# Altium footprint library SparkFun-Connectors.PCBLIB: 386 footprints (part 24 of 25)
Each footprint in its own frame and in the unit in brackets; x right, y up, seen from the top. Pads: shape width x height; smd on the part's side, far side on the other; paste and mask are expansions set on the pad; w line width, h text height; cw(c..) or ccw(c..) is an arc to the next point about the centre after c.
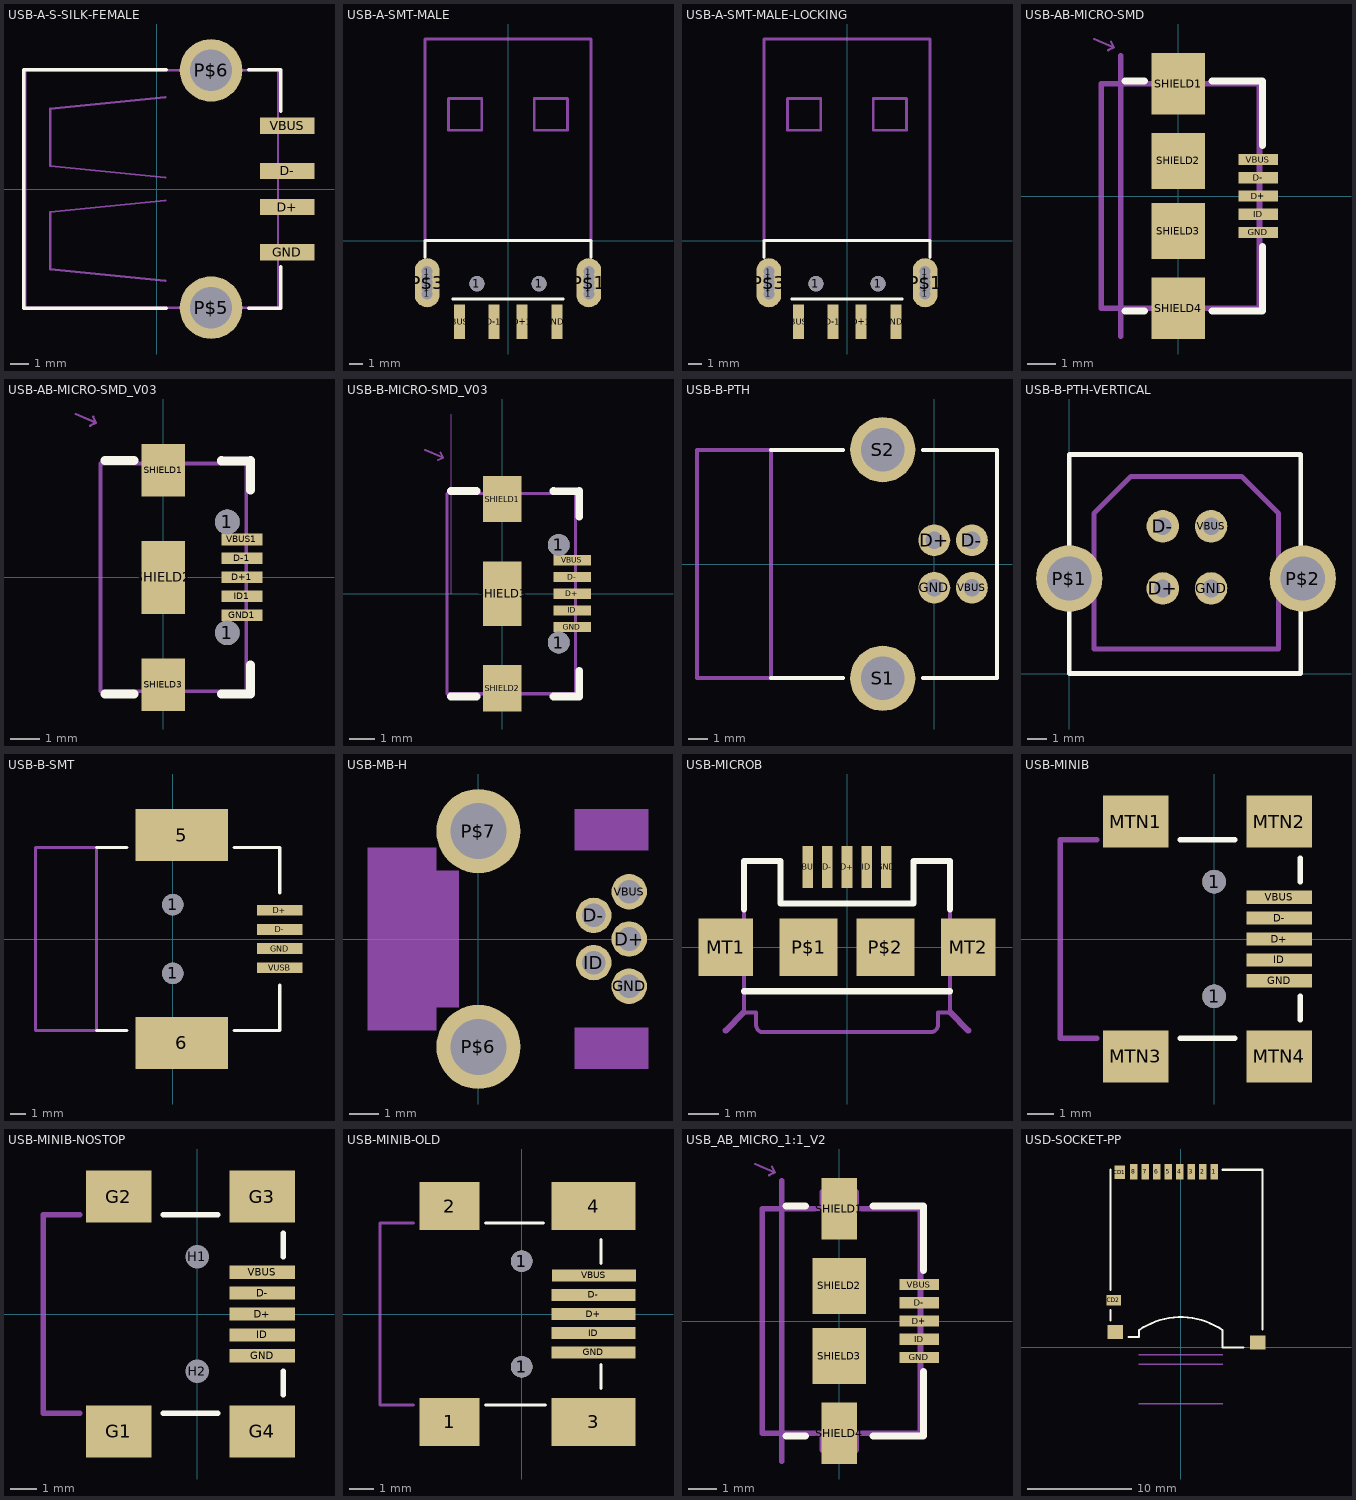
[diagram p23: the footprints below, top view; thin cyan lines are the x and y axes]

## USB-A-S-SILK-FEMALE [mil]
pads (6):
  rect 118.11x35.43 smd: D+(283.94,-39.37) D-(283.94,39.37) GND(283.94,-137.8) VBUS(283.94,137.8)
  round 136.5 hole 91: P$5(118.11,-258.5) P$6(118.11,258.5)
Top Overlay:
  lines w8: 20,-260 -290,-260 -290,260 20,260 ; 200,-260 270,-260 270,-170 ; 200,260 270,260 270,170
Mechanical 16:
  lines w5: -286.89,-258.5 263.61,-258.5 ; -286.89,-255 -286.89,255 ; -286.89,258.5 263.61,258.5 ; 18.11,-200 -231.89,-175 -231.89,-50 18.11,-25 ; 18.11,25 -231.89,50 -231.89,175 18.11,200 ; 264.11,-256 264.11,256

## USB-A-SMT-MALE [mil]
pads (16):
  round 31.5 hole 31.5: 1(-230.32,-151.57) 1(-230.32,-135.83) 1(-230.32,-104.33) 1(-230.32,-88.58) 1(230.32,-151.57) 1(230.32,-135.83) 1(230.32,-104.33) 1(230.32,-88.58)
  round 43.31 hole 43.31: 1(-88.58,-122.83) 1(88.58,-122.83)
  rect 31.5x98.43 smd: D+1(40.43,-231.1) D-1(-40.43,-231.1) GND1(139.8,-231.1) VBUS1(-137.8,-231.1)
  oval 70x140 hole 31.5: P$1(230.32,-120.08) P$3(-230.32,-120.08)
Top Overlay:
  lines w8: -236.22,-48.03 -236.22,0 236.22,0 236.22,-48.03 ; -157.48,-166.14 157.48,-166.14
Mechanical 16:
  lines w8: -236.22,0 -236.22,574.02 236.22,574.02 236.22,0 ; -169.29,314.17 -169.29,404.72 -74.8,404.72 -74.8,314.17 -169.29,314.17 ; 74.8,314.17 74.8,404.72 169.29,404.72 169.29,314.17 74.8,314.17
  text "PCB Edge" at -173.23,26.77 h77.5

## USB-A-SMT-MALE-LOCKING [mil]
pads (16):
  round 31.5 hole 31.5: 1(-222.32,-151.57) 1(-222.32,-135.83) 1(-222.32,-104.33) 1(-222.32,-88.58) 1(222.32,-151.57) 1(222.32,-135.83) 1(222.32,-104.33) 1(222.32,-88.58)
  round 43.31 hole 43.31: 1(-88.58,-122.83) 1(88.58,-122.83)
  rect 31.5x98.43 smd: D+1(40.43,-231.1) D-1(-40.43,-231.1) GND1(139.8,-231.1) VBUS1(-137.8,-231.1)
  oval 70x140 hole 31.5: P$1(222.32,-120.08) P$3(-222.32,-120.08)
Top Overlay:
  lines w8: -236.22,-48.03 -236.22,0 236.22,0 236.22,-48.03 ; -157.48,-166.14 157.48,-166.14
Mechanical 16:
  rectangle: -236,-160 -223,-80
  region: 236,-80 223,-80 223,-160 236,-160
  lines w0: -243.5,-160 -243.5,-80 ; -236,-160 -236,-82 ; -223,-160 -223,-82 ; 243.5,-160 243.5,-80
  lines w8: -236.22,0 -236.22,574.02 236.22,574.02 236.22,0 ; -169.29,314.17 -169.29,404.72 -74.8,404.72 -74.8,314.17 -169.29,314.17 ; 74.8,314.17 74.8,404.72 169.29,404.72 169.29,314.17 74.8,314.17
  text "PCB Edge" at -173.23,26.77 h77.5

## USB-AB-MICRO-SMD [mm]
pads (9):
  rect 1.4x0.4 smd: D+(2.85,0) D-(2.85,0.65) GND(2.85,-1.3) ID(2.85,-0.65) VBUS(2.85,1.3)
  rect 1.9x2.2 smd: SHIELD1(0,4) SHIELD4(0,-4)
  rect 1.9x2 smd: SHIELD2(0,1.25) SHIELD3(0,-1.25)
Top Overlay:
  lines w0.254: -1.9,-4.1 -1.2,-4.1 ; -1.9,4.1 -1.2,4.1 ; 1.2,-4.1 3,-4.1 3,-1.8 ; 1.2,4.1 3,4.1 3,1.8
Mechanical 16:
  lines w0.08: -3,5.6 -2.3,5.3 ; -2.5,5.2 -2.3,5.3 ; -2.4,5.5 -2.3,5.3
  lines w0.203: -2.75,-4 -2.75,4 ; -2.7,-4 2.9,-4 2.9,4 0.6,4 ; -2.7,4 -0.6,4 ; -2.05,-5 -2.05,5 ; -0.6,-4 -0.6,-4.6 0.6,-4.6 0.6,-4 ; -0.6,4 0.6,4 ; -0.6,4 -0.6,4.6 0.6,4.6 0.6,4
  text "PCB Front" at -5.2,5.5 h0.47

## USB-AB-MICRO-SMD_V03 [mm]
pads (10):
  round 0.85 hole 0.85: 1(2.2,-1.9) 1(2.2,1.9)
  rect 1.4x0.4 smd: D+1(2.7,0) D-1(2.7,0.65) GND1(2.7,-1.3) ID1(2.7,-0.65) VBUS1(2.7,1.3)
  rect 1.5x1.8 smd: SHIELD1(0,3.68) SHIELD3(0,-3.68)
  rect 1.5x2.5 smd: SHIELD2(0,0)
Top Overlay:
  lines w0.305: -2,-4 -1,-4 ; -2,4 -1,4 ; 2,-4 3,-4 3,-3 ; 2,4 2,3.993 2.982,3.993 ; 3,3 3,4
Top Paste:
  rectangle: -0.75,2.784 0.75,4.584
  rectangle: -0.35,-0.75 0.35,0.75
  rectangle: -0.75,-4.584 0.75,-2.784
Top Solder:
  rectangle: -0.85,2.684 0.85,4.684
  rectangle: -0.85,-4.684 0.85,-2.684
  rectangle: -0.85,-1.35 0.85,1.35
Mechanical 14:
  lines w0.127: -2.15,-3.9 -2.15,3.9 2.85,3.9 2.85,-3.9 -2.15,-3.9
Mechanical 16:
  lines w0.08: -3,5.6 -2.3,5.3 ; -2.5,5.2 -2.3,5.3 ; -2.4,5.5 -2.3,5.3
  text "PCB Front" at -4.66,5.96 h0.47

## USB-B-MICRO-SMD_V03 [mm]
pads (10):
  round 0.85 hole 0.85: 1(2.2,-1.9) 1(2.2,1.9)
  rect 1.45x0.4 smd: D+(2.725,0) D-(2.725,0.65) GND(2.725,-1.3) ID(2.725,-0.65) VBUS(2.725,1.3)
  rect 1.5x1.8 smd: SHIELD1(0,3.685) SHIELD2(0,-3.685)
  rect 1.5x2.5 smd: SHIELD3(0,0)
Top Overlay:
  lines w0.305: -2,-4 -1,-4 ; -2,4 -1,4 ; 2,-4 3,-4 3,-3 ; 2,4 2,3.993 2.982,3.993 ; 3,3 3,4
Top Paste:
  rectangle: -0.75,2.784 0.75,4.584
  rectangle: -0.35,-0.75 0.35,0.75
  rectangle: -0.75,-4.584 0.75,-2.784
Top Solder:
  rectangle: -0.85,2.684 0.85,4.684
  rectangle: -0.85,-4.684 0.85,-2.684
  rectangle: -0.85,-1.35 0.85,1.35
Mechanical 14:
  lines w0.127: -2.15,-3.9 -2.15,3.9 2.85,3.9 2.85,-3.9 -2.15,-3.9
Mechanical 16:
  lines w0: -2,0 -2,7
  lines w0.08: -3,5.6 -2.3,5.3 ; -2.5,5.2 -2.3,5.3 ; -2.4,5.5 -2.3,5.3
  text "PCB Front" at -4.66,5.96 h0.47

## USB-B-PTH [mil]
pads (6):
  round 66 hole 36: D+(0,49.21) D-(78,49.21) GND(0,-49.21) VBUS(78,-49.21)
  round 135 hole 90: S1(-107,-237) S2(-107,237)
Top Overlay:
  lines w8: -338.58,-236.22 -188.98,-236.22 ; -338.58,236.22 -188.98,236.22 ; -23.62,-236.22 129.92,-236.22 129.92,236.22 -23.62,236.22
Mechanical 16:
  lines w8: -492.13,-236.22 -338.58,-236.22 -338.58,236.22 -492.13,236.22 -492.13,-236.22

## USB-B-PTH-VERTICAL [mil]
pads (6):
  round 66 hole 36: D+(190,173) D-(190,299) GND(288,173) VBUS(288,299)
  round 135 hole 90: P$1(0,193) P$2(474,193)
Top Overlay:
  lines w10: 0,0 470,0 470,445 0,445 0,0
Mechanical 16:
  lines w10: 50,50 425,50 425,325 350,400 125,400 50,325 50,50

## USB-B-SMT [mm]
pads (8):
  round 1.4 hole 1.4: 1(0,-2.25) 1(0,2.25)
  rect 6.04x3.4 smd: 5(0.58,6.8) 6(0.58,-6.8)
  rect 3x0.7 smd: D+(7,1.875) D-(7,0.625) GND(7,-0.625) VUSB(7,-1.875)
Top Overlay:
  lines w0.203: -5,-6 -3,-6 ; -5,6 -3,6 ; 4,-6 7,-6 7,-3 ; 4,6 7,6 7,3
Mechanical 16:
  lines w0.203: -9,-6 -9,6 -5,6 -5,-6 -9,-6 ; -1,-7.3 -1,-6 2.4,-6 2.4,-7.3 2.2,-7.5 1.9,-7.5 1.4,-7 0,-7 -0.5,-7.5 -0.8,-7.5 -1,-7.3 ; -1,6 2.4,6 2.4,7.3 2.2,7.5 1.9,7.5 1.4,7 0,7 -0.5,7.5 -0.8,7.5 -1,7.3 -1,6

## USB-MB-H [mil]
pads (7):
  round 47.25 hole 31.5: D+(200.79,0) D-(153.54,31.5) GND(200.79,-62.99) ID(153.54,-31.5) VBUS(200.79,62.99)
  round 112.2 hole 74.8: P$6(0,-143.7) P$7(0,143.7)
Bottom Overlay:
  lines w5: -127.95,-49.21 68.9,-29.53 68.9,29.53 -127.95,49.21 ; 29.53,59.06 -127.95,78.74 -127.95,118.11 29.53,137.8 ; 49.21,-137.8 -127.95,-118.11 -127.95,-78.74 49.21,-59.06 ; -147.64,-153.54 -147.64,153.54 206.69,153.54 206.69,-153.54 -147.64,-153.54
Mechanical 10:
  rectangle: 127.95,118.11 226.38,173.23
  rectangle: 127.95,-173.23 226.38,-118.11
  rectangle: -147.64,-122.05 -56.1,122.05
  rectangle: -56.1,-91.54 -25.59,91.54

## USB-MICROB [mm]
pads (9):
  rect 0.35x1.4 smd: D+(0,2.65) D-(-0.65,2.65) GND(1.3,2.65) ID(0.65,2.65) VBUS(-1.3,2.65)
  rect 1.8x1.9 smd: MT1(-4,0) MT2(4,0)
  rect 1.9x1.9 smd: P$1(-1.27,0) P$2(1.27,0)
Top Overlay:
  lines w0.203: -3.4,-1.45 3.4,-1.45 ; -3.4,1.25 -3.4,2.85 -2.2,2.85 -2.2,1.45 2.2,1.45 2.2,2.85 3.4,2.85 3.4,1.25
Mechanical 16:
  lines w0.127: -3.4,-1.45 -3.4,-2.15 -3,-2.15 -3,-2.55 ccw(c-2.762,-2.565) -2.8,-2.8 2.75,-2.8 ccw(c2.765,-2.563) 3,-2.6 3,-2.15 3.4,-2.15 3.4,-1.45 ; -3.4,-1.45 -3.4,2.85 -2.2,2.85 -2.2,1.45 2.2,1.45 2.2,2.85 3.4,2.85 3.4,-1.45 ; -3.4,-1.45 3.4,-1.45
  lines w0.203: -4,-2.75 -3.4,-2.15 ; 3.4,-2.15 4,-2.75

## USB-MINIB [mm]
pads (11):
  round 0.9 hole 0.9: 1(0,-2.2) 1(0,2.2)
  rect 2.5x0.5 smd: D+(2.5,0) D-(2.5,0.8) GND(2.5,-1.6) ID(2.5,-0.8) VBUS(2.5,1.6)
  rect 2.5x2 smd: MTN1(-3,4.5) MTN2(2.5,4.5) MTN3(-3,-4.5) MTN4(2.5,-4.5)
Top Overlay:
  lines w0.203: -1.3,-3.8 0.8,-3.8 ; -1.3,3.8 0.8,3.8 ; 3.3,-3.1 3.3,-2.2 ; 3.3,2.2 3.3,3.1
Mechanical 16:
  lines w0.203: -4.5,-3.8 -5.9,-3.8 -5.9,3.8 -4.5,3.8

## USB-MINIB-NOSTOP [mil]
pads (11):
  rect 98.43x19.69 smd: D+(98.43,0) D-(98.43,31.5) GND(98.43,-62.99) ID(98.43,-31.5) VBUS(98.43,62.99)
  rect 98.43x78.74 smd: G1(-118.11,-177.17) G2(-118.11,177.17) G3(98.43,177.17) G4(98.43,-177.17)
  round 31.5 hole 35.43: H1(0,86.61)
  round 31 hole 35.43: H2(0,-86.61)
Top Overlay:
  lines w8: -51.18,-149.61 31.5,-149.61 ; -51.18,149.61 31.5,149.61 ; 129.92,-122.05 129.92,-86.61 ; 129.92,86.61 129.92,122.05
Top Solder:
  circle w16.14: c0,86.61 r13.78
  circle w16.14: c0,-86.61 r13.78
Mechanical 16:
  lines w8: -177.17,-149.61 -232.28,-149.61 -232.28,149.61 -177.17,149.61

## USB-MINIB-OLD [mm]
pads (11):
  rect 2.5x2 smd: 1(-3,-4.5) 2(-3,4.5)
  round 0.9 hole 0.9: 1(0,-2.2) 1(0,2.2)
  rect 3.5x2 smd: 3(3,-4.5) 4(3,4.5)
  rect 3.5x0.5 smd: D+(3,0) D-(3,0.8) GND(3,-1.6) ID(3,-0.8) VBUS(3.01,1.61)
Top Overlay:
  lines w0.127: -1.5,-3.8 1,-3.8 ; -1.5,3.8 0.9,3.8 ; 3.3,-3.1 3.3,-2.1 ; 3.3,2.1 3.3,3.1
Mechanical 16:
  lines w0.127: -4.5,-3.8 -5.9,-3.8 -5.9,3.8 -4.5,3.8

## USB_AB_MICRO_1:1_V2 [mm]
pads (9):
  rect 1.4x0.4 smd: D+(2.85,0) D-(2.85,0.65) GND(2.85,-1.3) ID(2.85,-0.65) VBUS(2.85,1.3)
  rect 1.27x2.2 smd: SHIELD1(0,4) SHIELD4(0,-4)
  rect 1.9x2 smd: SHIELD2(0,1.25) SHIELD3(0,-1.25)
Top Overlay:
  lines w0.254: -1.9,-4.1 -1.2,-4.1 ; -1.9,4.1 -1.2,4.1 ; 1.2,-4.1 3,-4.1 3,-1.8 ; 1.2,4.1 3,4.1 3,1.8
Mechanical 16:
  lines w0.08: -3,5.6 -2.3,5.3 ; -2.5,5.2 -2.3,5.3 ; -2.4,5.5 -2.3,5.3
  lines w0.203: -2.75,-4 -2.75,4 ; -2.7,-4 2.9,-4 2.9,4 0.6,4 ; -2.7,4 -0.6,4 ; -2.05,-5 -2.05,5 ; -0.6,-4 -0.6,-4.6 0.6,-4.6 0.6,-4 ; -0.6,4 0.6,4 ; -0.6,4 -0.6,4.6 0.6,4.6 0.6,4
  text "PCB Front" at -5.2,5.5 h0.47

## USD-SOCKET-PP [mm]
pads (12):
  rect 0.75x1.5 smd: 1(3.2,16.8) 2(2.1,16.8) 3(1,16.8) 4(-0.1,16.8) 5(-1.2,16.8) 6(-2.3,16.8) 7(-3.4,16.8) 8(-4.5,16.8)
  rect 1x1.3 smd: CD1(-5.85,16.75)
  rect 1.4x1 smd: CD2(-6.425,4.5)
  rect 1.5x1.35 smd: GND1(-6.275,1.475) GND2(7.375,0.475)
Top Overlay:
  lines w0.203: -6.725,2.6 -6.725,3.6 ; -6.725,5.5 -6.725,17 ; -5,1 -4,1 -4,1.65 cw(c0,-4.125) 4,1.65 4,0 6,0 ; 4,17 7.825,17 7.825,1.7
Mechanical 16:
  lines w0.127: -4,-5.4 4,-5.4 ; -4,-1.6 4,-1.6 ; -4,-0.7 4,-0.7